# Altium schematic symbol library Male_Header_P2.54.SchLib: 2 symbols
Pins are listed as number, name and electrical type; pins without a type are passive.

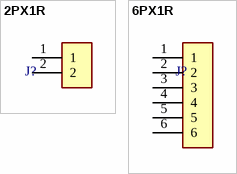
[diagram p0: symbols 2PX1R to 6PX1R]

## 2PX1R
designator J?
2PX1R
footprint 2PX1R
pins: 1, 2

## 6PX1R
designator J?, comment ERP_148-2  (value not drawn)
6PX1R
footprint 6PX1R
pins: 1, 2, 3, 4, 5, 6